# Altium footprint library J 接插件.PcbLib: 458 footprints (part 2 of 29)
Each footprint in its own frame and in the unit in brackets; x right, y up, seen from the top. Pads: shape width x height; smd on the part's side, far side on the other; paste and mask are expansions set on the pad; w line width, h text height; cw(c..) or ccw(c..) is an arc to the next point about the centre after c.
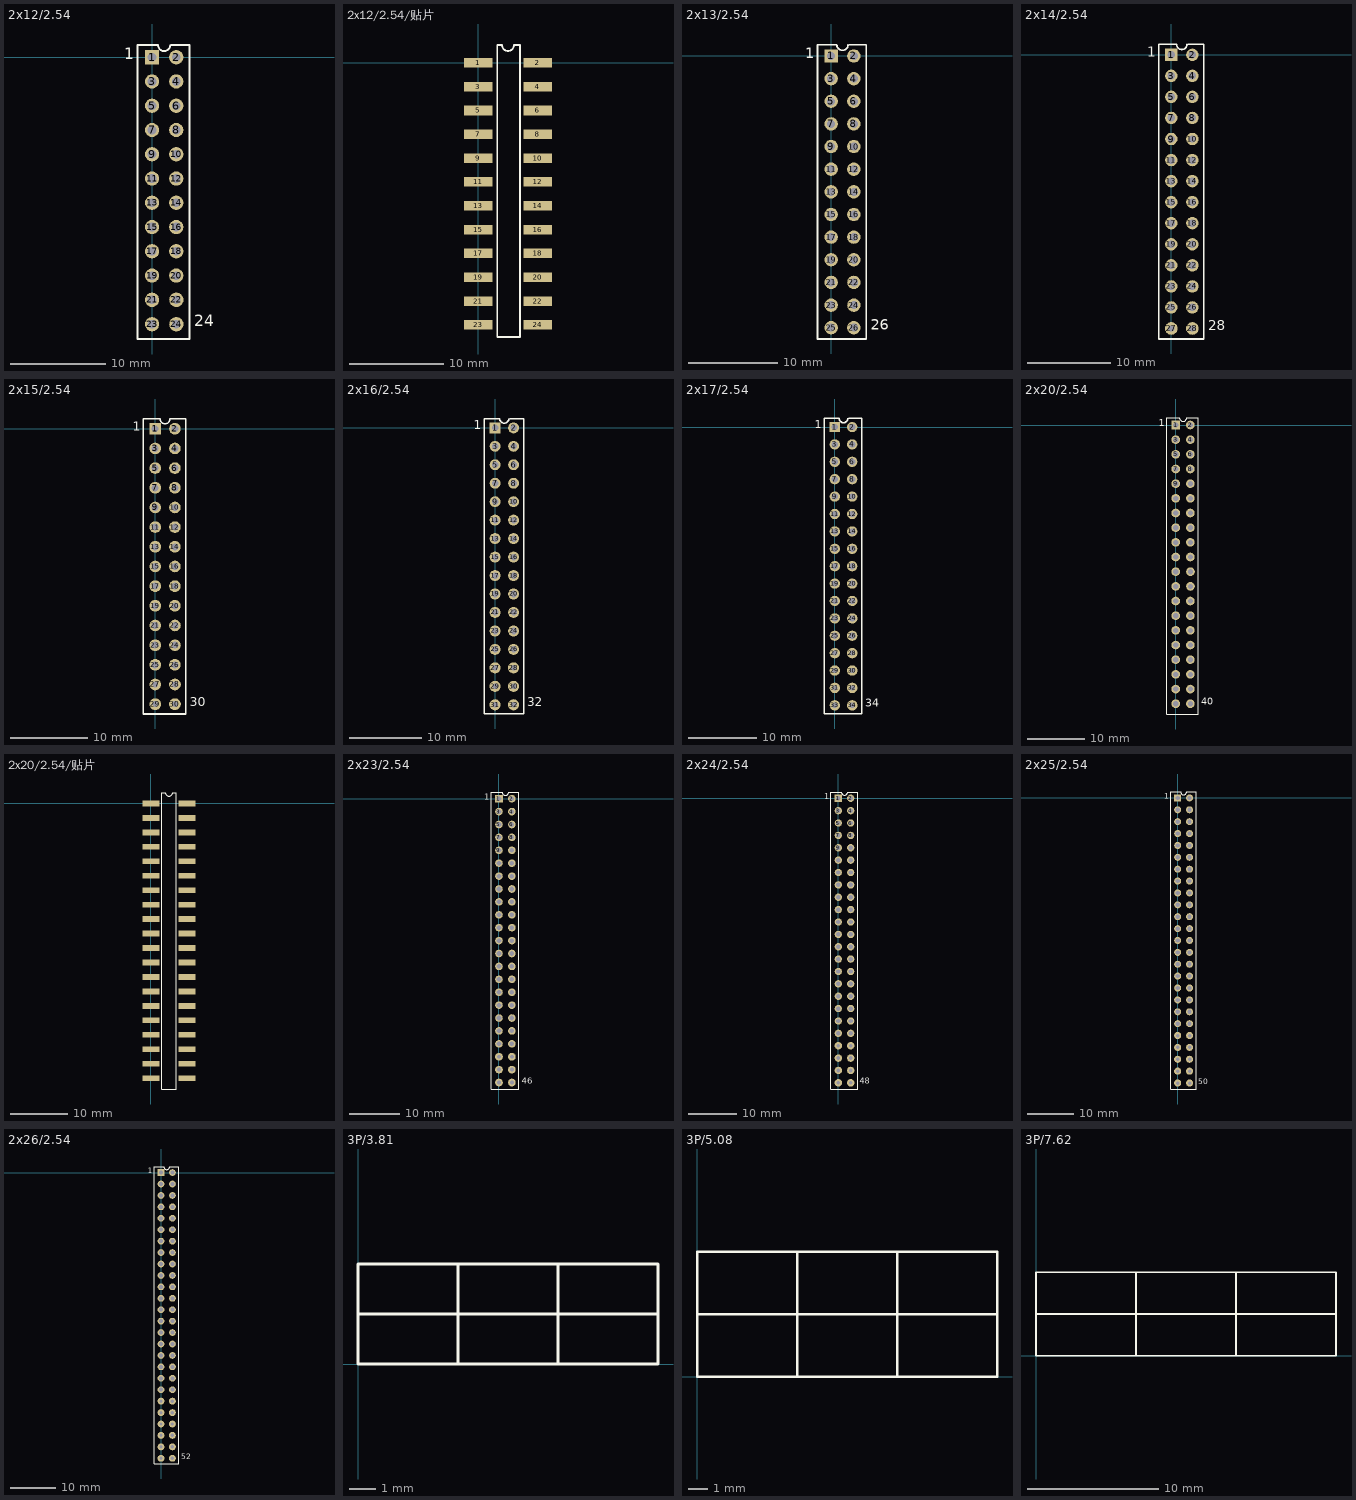
[diagram p1: the footprints below, top view; thin cyan lines are the x and y axes]

## 2x12/2.54 [mm]
pads (24):
  rect 1.5x1.5 hole 0.9: 1(0,0)
  round 1.5 hole 0.9: 2(2.54,0) 3(0,-2.54) 4(2.54,-2.54) 5(0,-5.08) 6(2.54,-5.08) 7(0,-7.62) 8(2.54,-7.62) 9(0,-10.16) 10(2.54,-10.16) 11(0,-12.7) 12(2.54,-12.7) 13(0,-15.24) 14(2.54,-15.24) 15(0,-17.78) 16(2.54,-17.78) 17(0,-20.32) 18(2.54,-20.32) 19(0,-22.86) 20(2.54,-22.86) 21(0,-25.4) 22(2.55,-25.4) 23(0,-27.95) 24(2.55,-27.95)
Top Overlay:
  lines w0.2: 1.905,1.27 cw(c1.27,1.27) 0.635,1.27 -1.524,1.27 -1.524,-29.5 3.937,-29.5 3.937,1.27 2.032,1.27
  text "1" at -2.921,-0.635 h2.03
  text "24" at 4.445,-28.575 h2.03

## 2x12/2.54/贴片 [mm]
height 9
pads (24):
  rect 3x1.02 smd: 1(0,0) 2(6.35,0) 3(0,-2.54) 4(6.35,-2.54) 5(0,-5.08) 6(6.35,-5.08) 7(0,-7.62) 8(6.35,-7.62) 9(0,-10.16) 10(6.35,-10.16) 11(0,-12.7) 12(6.35,-12.7) 13(0,-15.24) 14(6.35,-15.24) 15(0,-17.78) 16(6.35,-17.78) 17(0,-20.32) 18(6.35,-20.32) 19(0,-22.86) 20(6.35,-22.86) 21(0,-25.4) 22(6.35,-25.4) 23(0,-27.94) 24(6.35,-27.94)
Top Overlay:
  lines w0.2: 2.032,-29.21 2.032,1.905 2.54,1.905 ccw(c3.175,1.905) 3.81,1.905 4.445,1.905 4.445,-29.21 2.032,-29.21

## 2x13/2.54 [mm]
pads (26):
  rect 1.5x1.5 hole 0.9: 1(0,0)
  round 1.5 hole 0.9: 2(2.54,0) 3(0,-2.54) 4(2.54,-2.54) 5(0,-5.08) 6(2.54,-5.08) 7(0,-7.62) 8(2.54,-7.62) 9(0,-10.16) 10(2.54,-10.16) 11(0,-12.7) 12(2.54,-12.7) 13(0,-15.24) 14(2.54,-15.24) 15(0,-17.78) 16(2.54,-17.78) 17(0,-20.32) 18(2.54,-20.32) 19(0,-22.86) 20(2.54,-22.86) 21(0,-25.4) 22(2.55,-25.4) 23(0,-27.95) 24(2.55,-27.95) 25(0,-30.48) 26(2.54,-30.48)
Top Overlay:
  lines w0.2: 1.905,1.27 cw(c1.27,1.27) 0.635,1.27 -1.524,1.27 -1.524,-31.75 3.937,-31.75 3.937,1.27 2.032,1.27
  text "1" at -2.921,-0.635 h2.03
  text "26" at 4.445,-31.115 h2.03

## 2x14/2.54 [mm]
pads (28):
  rect 1.5x1.5 hole 0.9: 1(0,0)
  round 1.5 hole 0.9: 2(2.54,0) 3(0,-2.54) 4(2.54,-2.54) 5(0,-5.08) 6(2.54,-5.08) 7(0,-7.62) 8(2.54,-7.62) 9(0,-10.16) 10(2.54,-10.16) 11(0,-12.7) 12(2.54,-12.7) 13(0,-15.24) 14(2.54,-15.24) 15(0,-17.78) 16(2.54,-17.78) 17(0,-20.32) 18(2.54,-20.32) 19(0,-22.86) 20(2.54,-22.86) 21(0,-25.4) 22(2.55,-25.4) 23(0,-27.95) 24(2.55,-27.95) 25(0,-30.48) 26(2.54,-30.48)
  round 1.524 hole 0.762: 27(0,-33.02) 28(2.54,-33.02)
Top Overlay:
  lines w0.2: 1.905,1.27 cw(c1.27,1.27) 0.635,1.27 -1.524,1.27 -1.524,-34.29 3.937,-34.29 3.937,1.27 2.032,1.27
  text "1" at -2.921,-0.635 h2.03
  text "28" at 4.445,-33.655 h2.03

## 2x15/2.54 [mm]
pads (30):
  rect 1.5x1.5 hole 0.9: 1(0,0)
  round 1.5 hole 0.9: 2(2.54,0) 3(0,-2.54) 4(2.54,-2.54) 5(0,-5.08) 6(2.54,-5.08) 7(0,-7.62) 8(2.54,-7.62) 9(0,-10.16) 10(2.54,-10.16) 11(0,-12.7) 12(2.54,-12.7) 13(0,-15.24) 14(2.54,-15.24) 15(0,-17.78) 16(2.54,-17.78) 17(0,-20.32) 18(2.54,-20.32) 19(0,-22.86) 20(2.54,-22.86) 21(0,-25.4) 22(2.55,-25.4) 23(0,-27.95) 24(2.55,-27.95) 25(0,-30.48) 26(2.54,-30.48)
  round 1.524 hole 0.762: 27(0,-33.02) 28(2.54,-33.02) 29(0,-35.56) 30(2.54,-35.56)
Top Overlay:
  lines w0.2: 1.905,1.27 cw(c1.27,1.27) 0.635,1.27 -1.524,1.27 -1.524,-36.83 3.937,-36.83 3.937,1.27 2.032,1.27
  text "1" at -2.921,-0.635 h2.03
  text "30" at 4.445,-36.195 h2.03

## 2x16/2.54 [mm]
pads (32):
  rect 1.5x1.5 hole 0.9: 1(0,0)
  round 1.5 hole 0.9: 2(2.54,0) 3(0,-2.54) 4(2.54,-2.54) 5(0,-5.08) 6(2.54,-5.08) 7(0,-7.62) 8(2.54,-7.62) 9(0,-10.16) 10(2.54,-10.16) 11(0,-12.7) 12(2.54,-12.7) 13(0,-15.24) 14(2.54,-15.24) 15(0,-17.78) 16(2.54,-17.78) 17(0,-20.32) 18(2.54,-20.32) 19(0,-22.86) 20(2.54,-22.86) 21(0,-25.4) 22(2.55,-25.4) 23(0,-27.95) 24(2.55,-27.95) 25(0,-30.48) 26(2.54,-30.48)
  round 1.524 hole 0.762: 27(0,-33.02) 28(2.54,-33.02) 29(0,-35.56) 30(2.54,-35.56) 31(0,-38.1) 32(2.54,-38.1)
Top Overlay:
  lines w0.2: 1.905,1.27 cw(c1.27,1.27) 0.635,1.27 -1.524,1.27 -1.524,-39.37 3.937,-39.37 3.937,1.27 2.032,1.27
  text "32" at 4.445,-38.735 h2.03
  text "1" at -2.921,-0.635 h2.03

## 2x17/2.54 [mm]
pads (34):
  rect 1.5x1.5 hole 0.9: 1(0,0)
  round 1.5 hole 0.9: 2(2.54,0) 3(0,-2.54) 4(2.54,-2.54) 5(0,-5.08) 6(2.54,-5.08) 7(0,-7.62) 8(2.54,-7.62) 9(0,-10.16) 10(2.54,-10.16) 11(0,-12.7) 12(2.54,-12.7) 13(0,-15.24) 14(2.54,-15.24) 15(0,-17.78) 16(2.54,-17.78) 17(0,-20.32) 18(2.54,-20.32) 19(0,-22.86) 20(2.54,-22.86) 21(0,-25.4) 22(2.55,-25.4) 23(0,-27.95) 24(2.55,-27.95) 25(0,-30.48) 26(2.54,-30.48)
  round 1.524 hole 0.762: 27(0,-33.02) 28(2.54,-33.02) 29(0,-35.56) 30(2.54,-35.56) 31(0,-38.1) 32(2.54,-38.1) 33(0,-40.64) 34(2.54,-40.64)
Top Overlay:
  lines w0.2: 1.905,1.27 cw(c1.27,1.27) 0.635,1.27 -1.524,1.27 -1.524,-41.91 3.937,-41.91 3.937,1.27 2.032,1.27
  text "34" at 4.445,-41.275 h2.03
  text "1" at -2.921,-0.635 h2.03

## 2x20/2.54 [mm]
pads (40):
  rect 1.5x1.5 hole 0.9: 1(0,0)
  round 1.5 hole 0.9: 2(2.54,0) 3(0,-2.54) 4(2.54,-2.54) 5(0,-5.08) 6(2.54,-5.08) 7(0,-7.62) 8(2.54,-7.62) 9(0,-10.16) 10(2.54,-10.16) 11(0,-12.7) 12(2.54,-12.7) 13(0,-15.24) 14(2.54,-15.24) 15(0,-17.78) 16(2.54,-17.78) 17(0,-20.32) 18(2.54,-20.32) 19(0,-22.86) 20(2.54,-22.86) 21(0,-25.4) 22(2.55,-25.4) 23(0,-27.95) 24(2.55,-27.95) 25(0,-30.48) 26(2.54,-30.48) 27(0,-33.02) 28(2.54,-33.02) 29(0,-35.56) 30(2.54,-35.56) 31(0,-38.1) 32(2.54,-38.1) 33(0,-40.64) 34(2.54,-40.64) 35(0,-43.18) 36(2.54,-43.18) 37(0,-45.72) 38(2.54,-45.72) 39(0,-48.26) 40(2.54,-48.26)
Top Overlay:
  lines w0.2: 1.905,1.27 cw(c1.27,1.27) 0.635,1.27 -1.524,1.27 -1.524,-50.038 3.937,-50.038 3.937,1.27 2.032,1.27
  text "40" at 4.445,-48.895 h2.03
  text "1" at -2.921,-0.635 h2.03

## 2x20/2.54/贴片 [mm]
height 9
pads (40):
  rect 3x1.02 smd: 1(0,0) 2(6.35,0) 3(0,-2.54) 4(6.35,-2.54) 5(0,-5.08) 6(6.35,-5.08) 7(0,-7.62) 8(6.35,-7.62) 9(0,-10.16) 10(6.35,-10.16) 11(0,-12.7) 12(6.35,-12.7) 13(0,-15.24) 14(6.35,-15.24) 15(0,-17.78) 16(6.35,-17.78) 17(0,-20.32) 18(6.35,-20.32) 19(0,-22.86) 20(6.35,-22.86) 21(0,-25.4) 22(6.35,-25.4) 23(0,-27.94) 24(6.35,-27.94) 25(0,-30.48) 26(6.35,-30.48) 27(0,-33.02) 28(6.35,-33.02) 29(0,-35.56) 30(6.35,-35.56) 31(0,-38.1) 32(6.35,-38.1) 33(0,-40.64) 34(6.35,-40.64) 35(0,-43.18) 36(6.35,-43.18) 37(0,-45.72) 38(6.35,-45.72) 39(0,-48.26) 40(6.35,-48.26)
Top Overlay:
  lines w0.2: 1.905,-50.165 1.905,1.905 2.54,1.905 ccw(c3.175,1.905) 3.81,1.905 4.445,1.905 4.445,-50.165 1.905,-50.165

## 2x23/2.54 [mm]
pads (46):
  rect 1.5x1.5 hole 0.9: 1(0,0)
  round 1.5 hole 0.9: 2(2.54,0) 3(0,-2.54) 4(2.54,-2.54) 5(0,-5.08) 6(2.54,-5.08) 7(0,-7.62) 8(2.54,-7.62) 9(0,-10.16) 10(2.54,-10.16) 11(0,-12.7) 12(2.54,-12.7) 13(0,-15.24) 14(2.54,-15.24) 15(0,-17.78) 16(2.54,-17.78) 17(0,-20.32) 18(2.54,-20.32) 19(0,-22.86) 20(2.54,-22.86) 21(0,-25.4) 22(2.55,-25.4) 23(0,-27.95) 24(2.55,-27.95) 25(0,-30.48) 26(2.54,-30.48) 27(0,-33.02) 28(2.54,-33.02) 29(0,-35.56) 30(2.54,-35.56) 31(0,-38.1) 32(2.54,-38.1) 33(0,-40.64) 34(2.54,-40.64) 35(0,-43.18) 36(2.54,-43.18) 37(0,-45.72) 38(2.54,-45.72) 39(0,-48.26) 40(2.54,-48.26)
  round 1.524 hole 0.762: 41(0,-50.8) 42(2.54,-50.8) 43(0,-53.34) 44(2.54,-53.34) 45(0,-55.88) 46(2.54,-55.88)
Top Overlay:
  lines w0.2: 1.905,1.27 cw(c1.27,1.27) 0.635,1.27 -1.524,1.27 -1.524,-57.15 3.937,-57.15 3.937,1.27 2.032,1.27
  text "46" at 4.445,-56.515 h2.03
  text "1" at -2.921,-0.635 h2.03

## 2x24/2.54 [mm]
pads (48):
  rect 1.5x1.5 hole 0.9: 1(0,0)
  round 1.5 hole 0.9: 2(2.54,0) 3(0,-2.54) 4(2.54,-2.54) 5(0,-5.08) 6(2.54,-5.08) 7(0,-7.62) 8(2.54,-7.62) 9(0,-10.16) 10(2.54,-10.16) 11(0,-12.7) 12(2.54,-12.7) 13(0,-15.24) 14(2.54,-15.24) 15(0,-17.78) 16(2.54,-17.78) 17(0,-20.32) 18(2.54,-20.32) 19(0,-22.86) 20(2.54,-22.86) 21(0,-25.4) 22(2.55,-25.4) 23(0,-27.95) 24(2.55,-27.95) 25(0,-30.48) 26(2.54,-30.48) 27(0,-33.02) 28(2.54,-33.02) 29(0,-35.56) 30(2.54,-35.56) 31(0,-38.1) 32(2.54,-38.1) 33(0,-40.64) 34(2.54,-40.64) 35(0,-43.18) 36(2.54,-43.18) 37(0,-45.72) 38(2.54,-45.72) 39(0,-48.26) 40(2.54,-48.26)
  round 1.524 hole 0.762: 41(0,-50.8) 42(2.54,-50.8) 43(0,-53.34) 44(2.54,-53.34) 45(0,-55.88) 46(2.54,-55.88) 47(0,-58.42) 48(2.54,-58.42)
Top Overlay:
  lines w0.2: 1.905,1.27 cw(c1.27,1.27) 0.635,1.27 -1.524,1.27 -1.524,-59.69 3.937,-59.69 3.937,1.27 2.032,1.27
  text "1" at -2.921,-0.635 h2.03
  text "48" at 4.445,-59.055 h2.03

## 2x25/2.54 [mm]
pads (50):
  rect 1.5x1.5 hole 0.9: 1(0,0)
  round 1.5 hole 0.9: 2(2.54,0) 3(0,-2.54) 4(2.54,-2.54) 5(0,-5.08) 6(2.54,-5.08) 7(0,-7.62) 8(2.54,-7.62) 9(0,-10.16) 10(2.54,-10.16) 11(0,-12.7) 12(2.54,-12.7) 13(0,-15.24) 14(2.54,-15.24) 15(0,-17.78) 16(2.54,-17.78) 17(0,-20.32) 18(2.54,-20.32) 19(0,-22.86) 20(2.54,-22.86) 21(0,-25.4) 22(2.55,-25.4) 23(0,-27.95) 24(2.55,-27.95) 25(0,-30.48) 26(2.54,-30.48) 27(0,-33.02) 28(2.54,-33.02) 29(0,-35.56) 30(2.54,-35.56) 31(0,-38.1) 32(2.54,-38.1) 33(0,-40.64) 34(2.54,-40.64) 35(0,-43.18) 36(2.54,-43.18) 37(0,-45.72) 38(2.54,-45.72) 39(0,-48.26) 40(2.54,-48.26)
  round 1.524 hole 0.762: 41(0,-50.8) 42(2.54,-50.8) 43(0,-53.34) 44(2.54,-53.34) 45(0,-55.88) 46(2.54,-55.88) 47(0,-58.42) 48(2.54,-58.42) 49(0,-60.96) 50(2.54,-60.96)
Top Overlay:
  lines w0.2: 1.905,1.27 cw(c1.27,1.27) 0.635,1.27 -1.524,1.27 -1.524,-62.23 3.937,-62.23 3.937,1.27 2.032,1.27
  text "50" at 4.445,-61.595 h2.03
  text "1" at -2.921,-0.635 h2.03

## 2x26/2.54 [mm]
pads (52):
  rect 1.5x1.5 hole 0.9: 1(0,0)
  round 1.5 hole 0.9: 2(2.54,0) 3(0,-2.54) 4(2.54,-2.54) 5(0,-5.08) 6(2.54,-5.08) 7(0,-7.62) 8(2.54,-7.62) 9(0,-10.16) 10(2.54,-10.16) 11(0,-12.7) 12(2.54,-12.7) 13(0,-15.24) 14(2.54,-15.24) 15(0,-17.78) 16(2.54,-17.78) 17(0,-20.32) 18(2.54,-20.32) 19(0,-22.86) 20(2.54,-22.86) 21(0,-25.4) 22(2.55,-25.4) 23(0,-27.95) 24(2.55,-27.95) 25(0,-30.48) 26(2.54,-30.48) 27(0,-33.02) 28(2.54,-33.02) 29(0,-35.56) 30(2.54,-35.56) 31(0,-38.1) 32(2.54,-38.1) 33(0,-40.64) 34(2.54,-40.64) 35(0,-43.18) 36(2.54,-43.18) 37(0,-45.72) 38(2.54,-45.72) 39(0,-48.26) 40(2.54,-48.26)
  round 1.524 hole 0.762: 41(0,-50.8) 42(2.54,-50.8) 43(0,-53.34) 44(2.54,-53.34) 45(0,-55.88) 46(2.54,-55.88) 47(0,-58.42) 48(2.54,-58.42) 49(0,-60.96) 50(2.54,-60.96) 51(0,-63.5) 52(2.54,-63.5)
Top Overlay:
  lines w0.2: 1.905,1.27 cw(c1.27,1.27) 0.635,1.27 -1.524,1.27 -1.524,-64.77 3.937,-64.77 3.937,1.27 2.032,1.27
  text "1" at -2.921,-0.635 h2.03
  text "52" at 4.445,-64.135 h2.03

## 3P/3.81 [mil] "头，间距3.81"
height 905.51
Top Overlay:
  lines w5: 0,75 450,75 ; 150,0 150,150 ; 300,0 300,150 ; 0,0 0,150 450,150 450,0 0,0

## 3P/5.08 [mil] "ͷ"
height 393.7
Top Overlay:
  lines w5: 0,125 600,125 ; 200,0 200,250 ; 400,0 400,250 ; 0,0 0,250 600,250 600,0 0,0

## 3P/7.62 [mil] "ͷ"
height 748.03
Top Overlay:
  lines w5: 0,125 900,125 ; 300,0 300,250 ; 600,0 600,250 ; 0,0 0,250 900,250 900,0 0,0